# EAGLE library part MBT3904 (library LARS_409_TRANSISTORS)
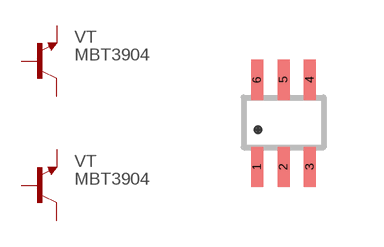
[diagram p0: symbol with the pads of SOT−363; footprint SOT−363]

Designator prefix VT; gates  =MBT3904   =MBT3904

## MBT3904SOT-363  [SOT−363]
1    :E  out
2    :B  in
3   :C  in
4   :E  out
5   :B  in
6    :C  in

## Footprint SOT−363 (pad centres in mm)
smd 0.3 x 1: 1 -0.66,-1.09; 2 0,-1.09; 3 0.66,-1.09; 4 0.66,1.09; 5 0,1.09; 6 -0.66,1.09